# EAGLE library part RFIO-RC522 (library trosh_devices.eagle.v9)
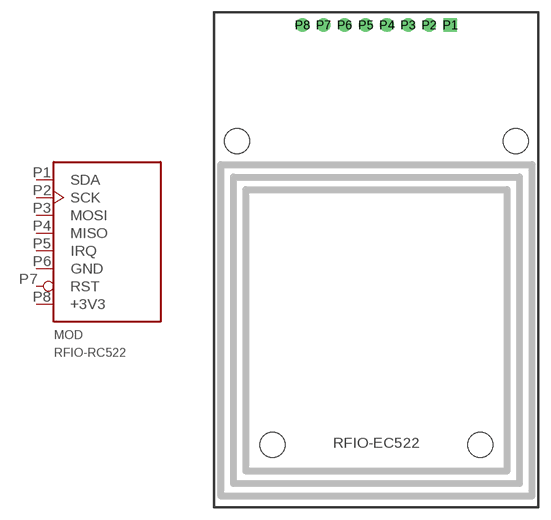
[diagram p4: symbol with the pads of RFIO-RC522; footprint RFIO-RC522]

Designator prefix MOD

## RFIO-RC522  [RFIO-RC522]
P1  SDA
P2  SCK  in
P3  MOSI  in
P4  MISO  out
P5  IRQ  out
P6  GND  pwr
P7  RST  in
P8  +3V3  pwr

## Footprint RFIO-RC522 (pad centres in mm)
drill 1.02 pad 1.632 square: P1 8.89,28.25
drill 1.02 pad 1.632: P2 6.35,28.25; P3 3.81,28.25; P4 1.27,28.25; P5 -1.27,28.25; P6 -3.81,28.25; P7 -6.35,28.25; P8 -8.89,28.25
hole 3 at -16.75,14.25
hole 3 at 16.75,14.25
hole 3 at -12.5,-22.25
hole 3 at 12.5,-22.25